# EAGLE library part A11489 (library con-omnetics)
RECEPTICAL
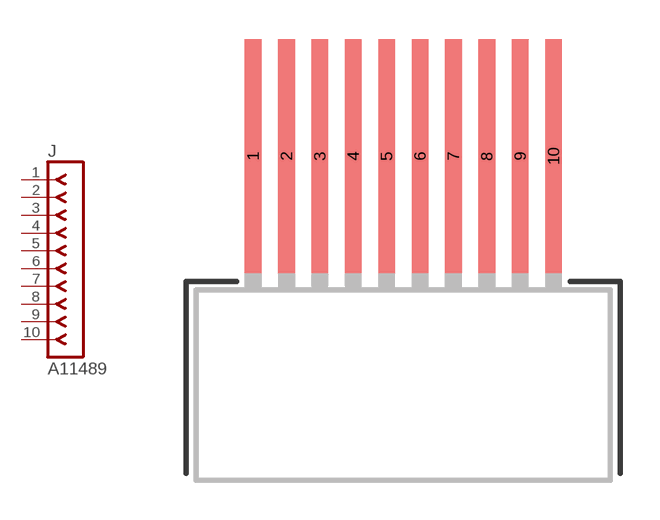
[diagram p16: symbol with the pads of A11489; footprint A11489]

Designator prefix J

## A11489 (P1: >)  [A11489]
1  1  pas
2  2  pas
3  3  pas
4  4  pas
5  5  pas
6  6  pas
7  7  pas
8  8  pas
9  9  pas
10  10  pas

## Footprint A11489 (pad centres in mm)
Connector SMD right angle, 10 pin
smd 0.635 x 8.89: 1 -5.715,5.08; 2 -4.445,5.08; 3 -3.175,5.08; 4 -1.905,5.08; 5 -0.635,5.08; 6 0.635,5.08; 7 1.905,5.08; 8 3.175,5.08; 9 4.445,5.08; 10 5.715,5.08